# Altium integrated library NSC Amplifier.IntLib: 1615 symbols (part 33 of 44)
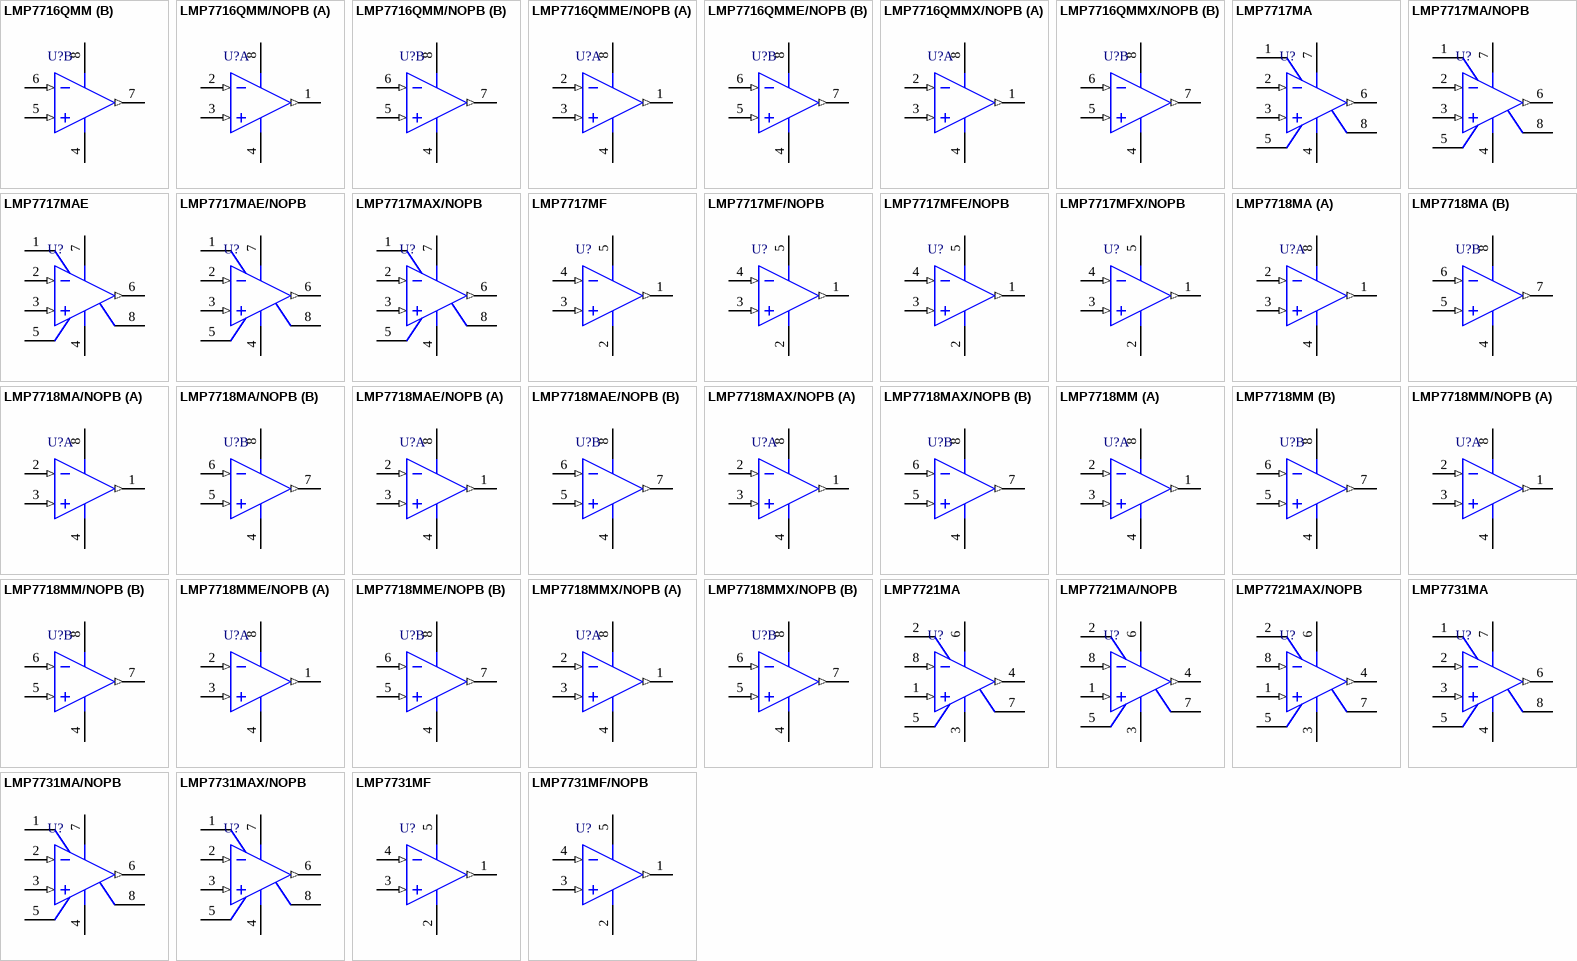
[diagram p114: symbols LMP7716QMM to LMP7731MF/NOPB]

## LMP7731MF/NOPB
designator U?
2.9 nV/sqrt(Hz) Low Noise, Precision , RRIO Amplifier, 5-pin SOT-23, Pb-Free; PartNumber: LMP7731MF/NOPB; Manufacturer: National Semiconductor; PackageTopMarking: AY3A*XTT; PowerWise: Y; CompType: Amplifiers; Published: 1-Mar-2010; DatasheetVersion: May-2009; PackageVersion: revD, Aug-2008; PackageReference: MF05A; Publisher: Altium Limited; PackageDescription: Molded SOT-23, .115 x .063 x .040 in Body, 5 Lead, .0375 in Pitch; Supplier 1: Digi-Key; Supplier Part Number 1: LMP7731MFTR-ND; Supplier 2: Digi-Key; Supplier Part Number 2: LMP7731MFCT-ND; Supplier 3: Digi-Key; Supplier Part Number 3: LMP7731MFDKR-ND; Supplier 4: Farnell; Supplier Part Number 4: 1458597; RoHS: Y; PinCount: 5; ComponentLink1Description: LMP7731 Datasheet; ComponentLink1URL: http://www.national.com/ds/LM/LMP7731.pdf; ComponentLink2Description: LMP7731 Web Page; ComponentLink2URL: http://www.national.com/pf/LM/LMP7731.html; ComponentLink3Description: MF05A Package Page; ComponentLink3URL: http://www.national.com/packaging/folders/mf05a.html
footprint MF05A_N (SOT23, 5-Leads, Body 2.9x1.6mm, Pitch 0.95mm, Lead Span 2.8mm, IPC Medium Density)
footprint MF05A_L (SOT23, 5-Leads, Body 2.9x1.6mm, Pitch 0.95mm, Lead Span 2.8mm, IPC High Density)
footprint MF05A_M (SOT23, 5-Leads, Body 2.9x1.6mm, Pitch 0.95mm, Lead Span 2.8mm, IPC Low Density)
simulation model LMP7731 (SUBCKT)
pins: 1 OUT (out), 2 V- (power), 3 IN+ (in), 4 IN- (in), 5 V+ (power)

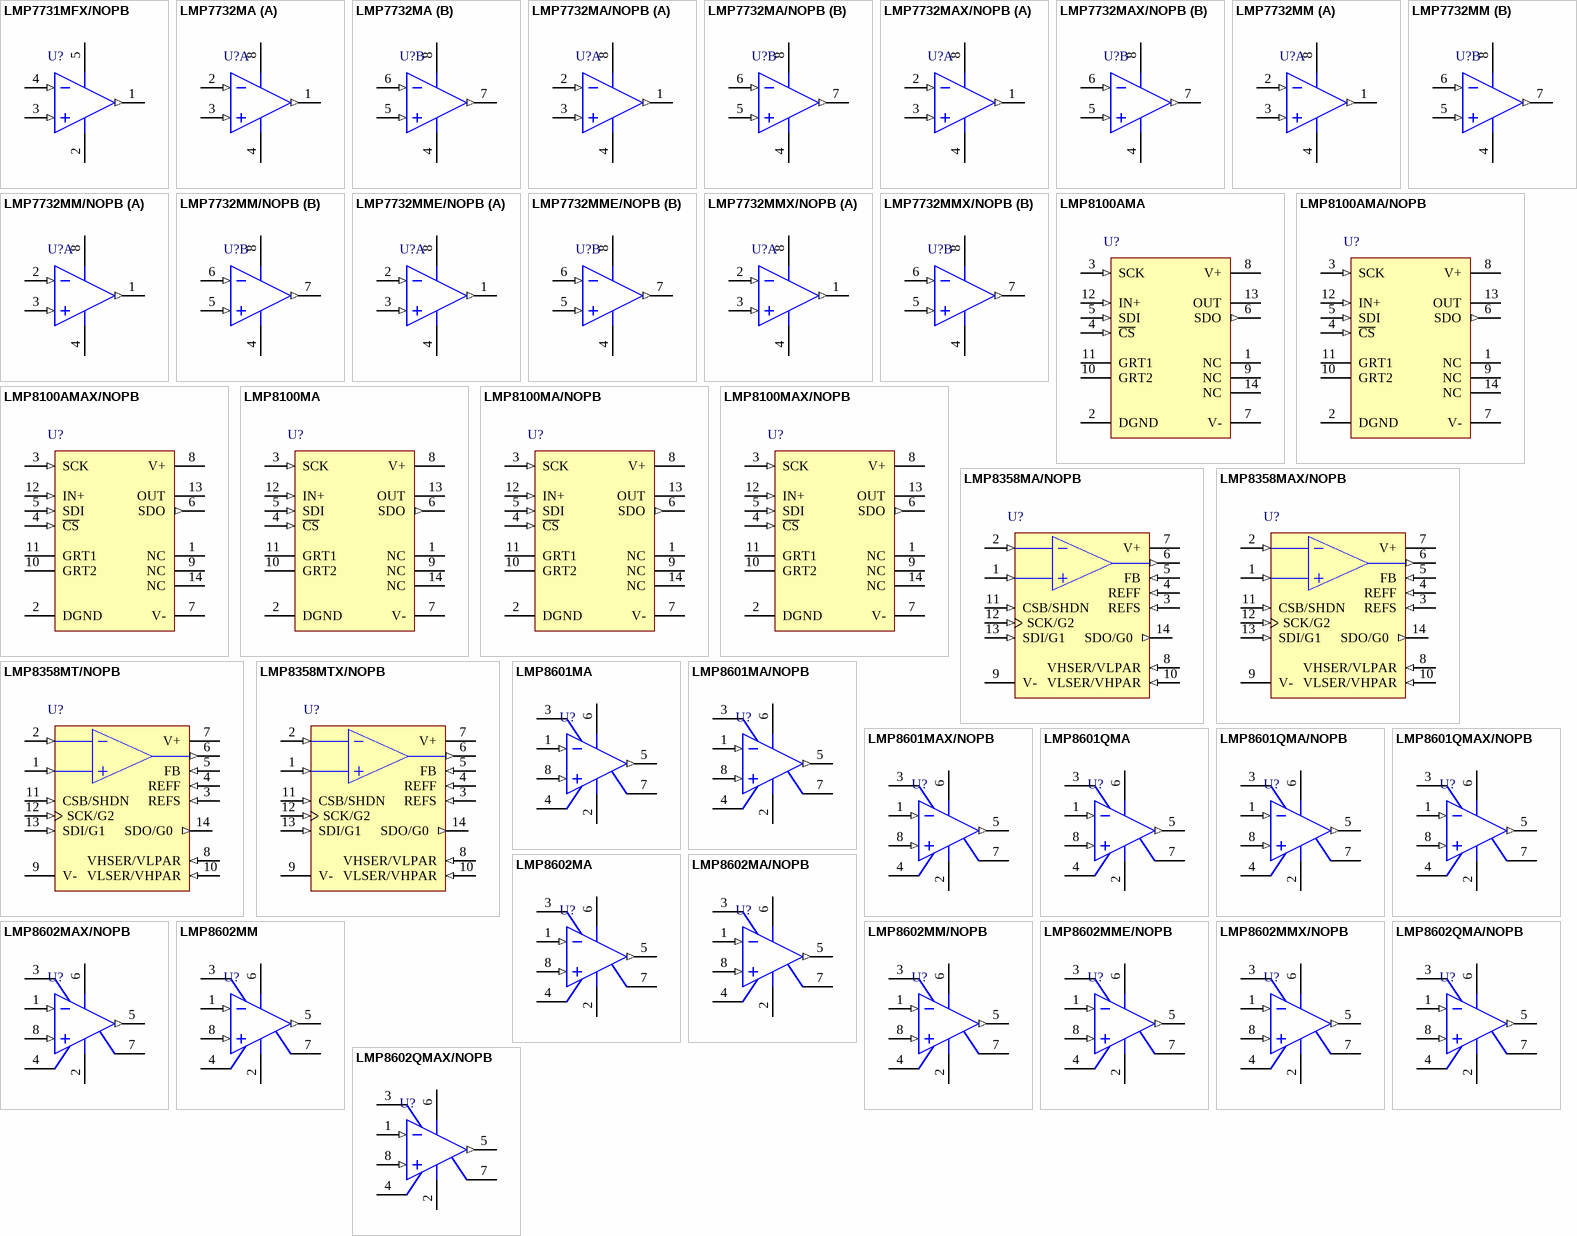
[diagram p63: symbols LMP7731MFX/NOPB to LMP8602QMAX/NOPB]

## LMP7731MFX/NOPB
designator U?
2.9 nV/sqrt(Hz) Low Noise, Precision , RRIO Amplifier, 5-pin SOT-23, Pb-Free; PartNumber: LMP7731MFX/NOPB; Manufacturer: National Semiconductor; PackageTopMarking: AY3A*XTT; PowerWise: Y; CompType: Amplifiers; Published: 1-Mar-2010; DatasheetVersion: May-2009; PackageVersion: revD, Aug-2008; PackageReference: MF05A; Publisher: Altium Limited; PackageDescription: Molded SOT-23, .115 x .063 x .040 in Body, 5 Lead, .0375 in Pitch; Supplier 1: Digi-Key; Supplier Part Number 1: LMP7731MFX-ND; RoHS: Y; PinCount: 5; ComponentLink1Description: LMP7731 Datasheet; ComponentLink1URL: http://www.national.com/ds/LM/LMP7731.pdf; ComponentLink2Description: LMP7731 Web Page; ComponentLink2URL: http://www.national.com/pf/LM/LMP7731.html; ComponentLink3Description: MF05A Package Page; ComponentLink3URL: http://www.national.com/packaging/folders/mf05a.html
footprint MF05A_N (SOT23, 5-Leads, Body 2.9x1.6mm, Pitch 0.95mm, Lead Span 2.8mm, IPC Medium Density)
footprint MF05A_L (SOT23, 5-Leads, Body 2.9x1.6mm, Pitch 0.95mm, Lead Span 2.8mm, IPC High Density)
footprint MF05A_M (SOT23, 5-Leads, Body 2.9x1.6mm, Pitch 0.95mm, Lead Span 2.8mm, IPC Low Density)
simulation model LMP7731 (SUBCKT)
pins: 1 OUT (out), 2 V- (power), 3 IN+ (in), 4 IN- (in), 5 V+ (power)

## LMP7732MA
designator U?
2.9nV/sqrt(Hz) Low Noise Precision, RRIO Amplifier, 8-pin Narrow SOIC; PartNumber: LMP7732MA; Manufacturer: National Semiconductor; PackageTopMarking: NSZXTT*LMP77*32MA; PowerWise: Y; CompType: Amplifiers; Published: 4-Dec-2008; LatestRevisionDate: 13-Jan-2009; LatestRevisionNote: Sim Model Added.; DatasheetVersion: May-2009; PackageVersion: revM, May-2009; PackageReference: M08A; Publisher: Altium Limited; PackageDescription: SOIC Narrow, 4.9 x 3.9 x 1.45mm, 8 Lead, 1.27mm Pitch; Supplier 1: Farnell; Supplier Part Number 1: 1495065; RoHS: Y; PinCount: 8; Code_JEDEC: MS-012-AA; Code_IPC: SOIC127P600-8; ComponentLink1Description: LMP7732 Datasheet; ComponentLink1URL: http://www.national.com/ds/LM/LMP7732.pdf; ComponentLink2Description: LMP7732 Web Page; ComponentLink2URL: http://www.national.com/pf/LM/LMP7732.html; ComponentLink3Description: M08A Package Page; ComponentLink3URL: http://www.national.com/packaging/folders/m08a.html
footprint M08A_N (SOIC, 8-Leads, Body 4.9x3.9mm, Pitch 1.27mm, IPC Medium Density)
footprint M08A_L (SOIC, 8-Leads, Body 4.9x3.9mm, Pitch 1.27mm, IPC High Density)
footprint M08A_M (SOIC, 8-Leads, Body 4.9x3.9mm, Pitch 1.27mm, IPC Low Density)
simulation model LMP7732 (SUBCKT)
pins on every part: 4 V- (power), 8 V+ (power)
part A pins: 1 OUTA (out), 2 INA- (in), 3 INA+ (in)
part B pins: 5 INB+ (in), 6 INB- (in), 7 OUTB (out)

## LMP7732MA/NOPB
designator U?
2.9nV/sqrt(Hz) Low Noise, RRIO Amplifier, 8-pin Narrow SOIC, Pb-Free; PartNumber: LMP7732MA/NOPB; Manufacturer: National Semiconductor; PackageTopMarking: NSZXTT*LMP77*32MA; PowerWise: Y; CompType: Amplifiers; Published: 1-Mar-2010; DatasheetVersion: May-2009; PackageVersion: revM, May-2009; PackageReference: M08A; Publisher: Altium Limited; PackageDescription: SOIC Narrow, 4.9 x 3.9 x 1.45mm, 8 Lead, 1.27mm Pitch; Supplier 1: Digi-Key; Supplier Part Number 1: LMP7732MA-ND; Supplier 2: Farnell; Supplier Part Number 2: 1468061; RoHS: Y; PinCount: 8; Code_JEDEC: MS-012-AA; Code_IPC: SOIC127P600-8; ComponentLink1Description: LMP7732 Datasheet; ComponentLink1URL: http://www.national.com/ds/LM/LMP7732.pdf; ComponentLink2Description: LMP7732 Web Page; ComponentLink2URL: http://www.national.com/pf/LM/LMP7732.html; ComponentLink3Description: M08A Package Page; ComponentLink3URL: http://www.national.com/packaging/folders/m08a.html
footprint M08A_N (SOIC, 8-Leads, Body 4.9x3.9mm, Pitch 1.27mm, IPC Medium Density)
footprint M08A_L (SOIC, 8-Leads, Body 4.9x3.9mm, Pitch 1.27mm, IPC High Density)
footprint M08A_M (SOIC, 8-Leads, Body 4.9x3.9mm, Pitch 1.27mm, IPC Low Density)
simulation model LMP7732 (SUBCKT)
pins on every part: 4 V- (power), 8 V+ (power)
part A pins: 1 OUTA (out), 2 INA- (in), 3 INA+ (in)
part B pins: 5 INB+ (in), 6 INB- (in), 7 OUTB (out)

## LMP7732MAX/NOPB
designator U?
2.9nV/sqrt(Hz) Low Noise, RRIO Amplifier, 8-pin Narrow SOIC, Pb-Free; PartNumber: LMP7732MAX/NOPB; Manufacturer: National Semiconductor; PackageTopMarking: NSZXTT*LMP77*32MA; PowerWise: Y; CompType: Amplifiers; Published: 1-Mar-2010; DatasheetVersion: May-2009; PackageVersion: revM, May-2009; PackageReference: M08A; Publisher: Altium Limited; PackageDescription: SOIC Narrow, 4.9 x 3.9 x 1.45mm, 8 Lead, 1.27mm Pitch; Supplier 1: Digi-Key; Supplier Part Number 1: LMP7732MAX-ND; RoHS: Y; PinCount: 8; Code_JEDEC: MS-012-AA; Code_IPC: SOIC127P600-8; ComponentLink1Description: LMP7732 Datasheet; ComponentLink1URL: http://www.national.com/ds/LM/LMP7732.pdf; ComponentLink2Description: LMP7732 Web Page; ComponentLink2URL: http://www.national.com/pf/LM/LMP7732.html; ComponentLink3Description: M08A Package Page; ComponentLink3URL: http://www.national.com/packaging/folders/m08a.html
footprint M08A_N (SOIC, 8-Leads, Body 4.9x3.9mm, Pitch 1.27mm, IPC Medium Density)
footprint M08A_L (SOIC, 8-Leads, Body 4.9x3.9mm, Pitch 1.27mm, IPC High Density)
footprint M08A_M (SOIC, 8-Leads, Body 4.9x3.9mm, Pitch 1.27mm, IPC Low Density)
simulation model LMP7732 (SUBCKT)
pins on every part: 4 V- (power), 8 V+ (power)
part A pins: 1 OUTA (out), 2 INA- (in), 3 INA+ (in)
part B pins: 5 INB+ (in), 6 INB- (in), 7 OUTB (out)

## LMP7732MM
designator U?
2.9nV/sqrt(Hz) Low Noise Precision, RRIO Amplifier, 8-pin Mini SOIC; PartNumber: LMP7732MM; Manufacturer: National Semiconductor; PackageTopMarking: ZXTT*AZ3A; PowerWise: N; CompType: Amplifiers; Published: 4-Dec-2008; LatestRevisionDate: 13-Jan-2009; LatestRevisionNote: Sim Model Added.; DatasheetVersion: May-2009; PackageVersion: revF, Apr-2008; PackageReference: MUA08A; Publisher: Altium Limited; PackageDescription: MINI SOIC, .118 x .118 x .034in, 8 Lead, .0256in Pitch; Supplier 1: Farnell; Supplier Part Number 1: 1663023; RoHS: Y; PinCount: 8; Code_JEDEC: MO-187-AA; ComponentLink1Description: LMP7732 Datasheet; ComponentLink1URL: http://www.national.com/ds/LM/LMP7732.pdf; ComponentLink2Description: LMP7732 Web Page; ComponentLink2URL: http://www.national.com/pf/LM/LMP7732.html; ComponentLink3Description: MUA08A Package Page; ComponentLink3URL: http://www.national.com/packaging/folders/mua08a.html
footprint MUA08A_N (TSOP, 8-Leads, Body 3x3mm, Pitch 0.65mm, IPC Medium Density)
footprint MUA08A_L (TSOP, 8-Leads, Body 3x3mm, Pitch 0.65mm, IPC High Density)
footprint MUA08A_M (TSOP, 8-Leads, Body 3x3mm, Pitch 0.65mm, IPC Low Density)
simulation model LMP7732 (SUBCKT)
pins on every part: 4 V- (power), 8 V+ (power)
part A pins: 1 OUTA (out), 2 INA- (in), 3 INA+ (in)
part B pins: 5 INB+ (in), 6 INB- (in), 7 OUTB (out)

## LMP7732MM/NOPB
designator U?
2.9nV/sqrt(Hz) Low Noise, RRIO Amplifier, 8-pin Mini SOIC, Pb-Free; PartNumber: LMP7732MM/NOPB; Manufacturer: National Semiconductor; PackageTopMarking: ZXTT*AZ3A; PowerWise: N; CompType: Amplifiers; Published: 1-Mar-2010; DatasheetVersion: May-2009; PackageVersion: revF, Apr-2008; PackageReference: MUA08A; Publisher: Altium Limited; PackageDescription: MINI SOIC, .118 x .118 x .034in, 8 Lead, .0256in Pitch; Supplier 1: Digi-Key; Supplier Part Number 1: LMP7732MM-ND; RoHS: Y; PinCount: 8; Code_JEDEC: MO-187-AA; ComponentLink1Description: LMP7732 Datasheet; ComponentLink1URL: http://www.national.com/ds/LM/LMP7732.pdf; ComponentLink2Description: LMP7732 Web Page; ComponentLink2URL: http://www.national.com/pf/LM/LMP7732.html; ComponentLink3Description: MUA08A Package Page; ComponentLink3URL: http://www.national.com/packaging/folders/mua08a.html
footprint MUA08A_N (TSOP, 8-Leads, Body 3x3mm, Pitch 0.65mm, IPC Medium Density)
footprint MUA08A_L (TSOP, 8-Leads, Body 3x3mm, Pitch 0.65mm, IPC High Density)
footprint MUA08A_M (TSOP, 8-Leads, Body 3x3mm, Pitch 0.65mm, IPC Low Density)
simulation model LMP7732 (SUBCKT)
pins on every part: 4 V- (power), 8 V+ (power)
part A pins: 1 OUTA (out), 2 INA- (in), 3 INA+ (in)
part B pins: 5 INB+ (in), 6 INB- (in), 7 OUTB (out)

## LMP7732MME/NOPB
designator U?
2.9nV/sqrt(Hz) Low Noise, RRIO Amplifier, 8-pin Mini SOIC, Pb-Free; PartNumber: LMP7732MME/NOPB; Manufacturer: National Semiconductor; PackageTopMarking: ZXTT*AZ3A; PowerWise: N; CompType: Amplifiers; Published: 1-Mar-2010; DatasheetVersion: May-2009; PackageVersion: revF, Apr-2008; PackageReference: MUA08A; Publisher: Altium Limited; PackageDescription: MINI SOIC, .118 x .118 x .034in, 8 Lead, .0256in Pitch; Supplier 1: Digi-Key; Supplier Part Number 1: LMP7732MMETR-ND; Supplier 2: Digi-Key; Supplier Part Number 2: LMP7732MMECT-ND; Supplier 3: Digi-Key; Supplier Part Number 3: LMP7732MMEDKR-ND; RoHS: Y; PinCount: 8; Code_JEDEC: MO-187-AA; ComponentLink1Description: LMP7732 Datasheet; ComponentLink1URL: http://www.national.com/ds/LM/LMP7732.pdf; ComponentLink2Description: LMP7732 Web Page; ComponentLink2URL: http://www.national.com/pf/LM/LMP7732.html; ComponentLink3Description: MUA08A Package Page; ComponentLink3URL: http://www.national.com/packaging/folders/mua08a.html
footprint MUA08A_N (TSOP, 8-Leads, Body 3x3mm, Pitch 0.65mm, IPC Medium Density)
footprint MUA08A_L (TSOP, 8-Leads, Body 3x3mm, Pitch 0.65mm, IPC High Density)
footprint MUA08A_M (TSOP, 8-Leads, Body 3x3mm, Pitch 0.65mm, IPC Low Density)
simulation model LMP7732 (SUBCKT)
pins on every part: 4 V- (power), 8 V+ (power)
part A pins: 1 OUTA (out), 2 INA- (in), 3 INA+ (in)
part B pins: 5 INB+ (in), 6 INB- (in), 7 OUTB (out)

## LMP7732MMX/NOPB
designator U?
2.9nV/sqrt(Hz) Low Noise, RRIO Amplifier, 8-pin Mini SOIC, Pb-Free; PartNumber: LMP7732MMX/NOPB; Manufacturer: National Semiconductor; PackageTopMarking: ZXTT*AZ3A; PowerWise: N; CompType: Amplifiers; Published: 1-Mar-2010; DatasheetVersion: May-2009; PackageVersion: revF, Apr-2008; PackageReference: MUA08A; Publisher: Altium Limited; PackageDescription: MINI SOIC, .118 x .118 x .034in, 8 Lead, .0256in Pitch; Supplier 1: Digi-Key; Supplier Part Number 1: LMP7732MMX-ND; RoHS: Y; PinCount: 8; Code_JEDEC: MO-187-AA; ComponentLink1Description: LMP7732 Datasheet; ComponentLink1URL: http://www.national.com/ds/LM/LMP7732.pdf; ComponentLink2Description: LMP7732 Web Page; ComponentLink2URL: http://www.national.com/pf/LM/LMP7732.html; ComponentLink3Description: MUA08A Package Page; ComponentLink3URL: http://www.national.com/packaging/folders/mua08a.html
footprint MUA08A_N (TSOP, 8-Leads, Body 3x3mm, Pitch 0.65mm, IPC Medium Density)
footprint MUA08A_L (TSOP, 8-Leads, Body 3x3mm, Pitch 0.65mm, IPC High Density)
footprint MUA08A_M (TSOP, 8-Leads, Body 3x3mm, Pitch 0.65mm, IPC Low Density)
simulation model LMP7732 (SUBCKT)
pins on every part: 4 V- (power), 8 V+ (power)
part A pins: 1 OUTA (out), 2 INA- (in), 3 INA+ (in)
part B pins: 5 INB+ (in), 6 INB- (in), 7 OUTB (out)

## LMP8100AMA
designator U?
Programmable Gain Amplifier, 14-pin Narrow SOIC; PartNumber: LMP8100AMA; Manufacturer: National Semiconductor; PackageTopMarking: NSUZXYTT*LMP8100*AMA; PowerWise: N; CompType: Amplifiers; Published: 4-Dec-2008; DatasheetVersion: Apr-2008; PackageVersion: revJ, Jan-1996; PackageReference: M14A; Publisher: Altium Limited; PackageDescription: Molded Package S.O., .150in Wide, 14 Lead; Supplier 1: Farnell; Supplier Part Number 1: 1433159; RoHS: Y; PinCount: 14; Code_JEDEC: MS-012AB; Code_IPC: SOIC127P600-14; ComponentLink1Description: LMP8100 Datasheet; ComponentLink1URL: http://www.national.com/ds/LM/LMP8100.pdf; ComponentLink2Description: LMP8100 Web Page; ComponentLink2URL: http://www.national.com/pf/LM/LMP8100.html; ComponentLink3Description: M14A Package Page; ComponentLink3URL: http://www.national.com/packaging/folders/m14a.html
footprint M14A_N (SOIC, 14-Leads, Body 8.6x3.9mm, Pitch 1.27mm, IPC Medium Density)
footprint M14A_L (SOIC, 14-Leads, Body 8.6x3.9mm, Pitch 1.27mm, IPC High Density)
footprint M14A_M (SOIC, 14-Leads, Body 8.6x3.9mm, Pitch 1.27mm, IPC Low Density)
pins: 1 NC, 2 DGND, 3 SCK (in), 4 ~{CS} (in), 5 SDI (in), 6 SDO (out), 7 V- (power), 8 V+ (power), 9 NC, 10 GRT2, 11 GRT1, 12 IN+ (in), 13 OUT, 14 NC

## LMP8100AMA/NOPB
designator U?
Programmable Gain Amplifier, 14-pin Narrow SOIC, Pb-Free; PartNumber: LMP8100AMA/NOPB; Manufacturer: National Semiconductor; PackageTopMarking: NSUZXYTTE#*LMP8100*AMA; PowerWise: N; CompType: Amplifiers; Published: 1-Mar-2010; DatasheetVersion: Apr-2008; PackageVersion: revJ, Jan-1996; PackageReference: M14A; Publisher: Altium Limited; PackageDescription: Molded Package S.O., .150in Wide, 14 Lead; Supplier 1: Digi-Key; Supplier Part Number 1: LMP8100AMA-ND; RoHS: Y; PinCount: 14; Code_JEDEC: MS-012AB; Code_IPC: SOIC127P600-14; ComponentLink1Description: LMP8100 Datasheet; ComponentLink1URL: http://www.national.com/ds/LM/LMP8100.pdf; ComponentLink2Description: LMP8100 Web Page; ComponentLink2URL: http://www.national.com/pf/LM/LMP8100.html; ComponentLink3Description: M14A Package Page; ComponentLink3URL: http://www.national.com/packaging/folders/m14a.html
footprint M14A_N (SOIC, 14-Leads, Body 8.6x3.9mm, Pitch 1.27mm, IPC Medium Density)
footprint M14A_L (SOIC, 14-Leads, Body 8.6x3.9mm, Pitch 1.27mm, IPC High Density)
footprint M14A_M (SOIC, 14-Leads, Body 8.6x3.9mm, Pitch 1.27mm, IPC Low Density)
pins: 1 NC, 2 DGND, 3 SCK (in), 4 ~{CS} (in), 5 SDI (in), 6 SDO (out), 7 V- (power), 8 V+ (power), 9 NC, 10 GRT2, 11 GRT1, 12 IN+ (in), 13 OUT, 14 NC

## LMP8100AMAX/NOPB
designator U?
Programmable Gain Amplifier, 14-pin Narrow SOIC, Pb-Free; PartNumber: LMP8100AMAX/NOPB; Manufacturer: National Semiconductor; PackageTopMarking: NSUZXYTTE#*LMP8100*AMA; PowerWise: N; CompType: Amplifiers; Published: 1-Mar-2010; DatasheetVersion: Apr-2008; PackageVersion: revJ, Jan-1996; PackageReference: M14A; Publisher: Altium Limited; PackageDescription: Molded Package S.O., .150in Wide, 14 Lead; Supplier 1: Digi-Key; Supplier Part Number 1: LMP8100AMAX-ND; RoHS: Y; PinCount: 14; Code_JEDEC: MS-012AB; Code_IPC: SOIC127P600-14; ComponentLink1Description: LMP8100 Datasheet; ComponentLink1URL: http://www.national.com/ds/LM/LMP8100.pdf; ComponentLink2Description: LMP8100 Web Page; ComponentLink2URL: http://www.national.com/pf/LM/LMP8100.html; ComponentLink3Description: M14A Package Page; ComponentLink3URL: http://www.national.com/packaging/folders/m14a.html
footprint M14A_N (SOIC, 14-Leads, Body 8.6x3.9mm, Pitch 1.27mm, IPC Medium Density)
footprint M14A_L (SOIC, 14-Leads, Body 8.6x3.9mm, Pitch 1.27mm, IPC High Density)
footprint M14A_M (SOIC, 14-Leads, Body 8.6x3.9mm, Pitch 1.27mm, IPC Low Density)
pins: 1 NC, 2 DGND, 3 SCK (in), 4 ~{CS} (in), 5 SDI (in), 6 SDO (out), 7 V- (power), 8 V+ (power), 9 NC, 10 GRT2, 11 GRT1, 12 IN+ (in), 13 OUT, 14 NC

## LMP8100MA
designator U?
Programmable Gain Amplifier, 14-pin Narrow SOIC; PartNumber: LMP8100MA; Manufacturer: National Semiconductor; PackageTopMarking: NSUZXYTT*LMP8100*MA; PowerWise: N; CompType: Amplifiers; Published: 4-Dec-2008; DatasheetVersion: Apr-2008; PackageVersion: revJ, Jan-1996; PackageReference: M14A; Publisher: Altium Limited; PackageDescription: Molded Package S.O., .150in Wide, 14 Lead; Supplier 1: Farnell; Supplier Part Number 1: 1433175; RoHS: Y; PinCount: 14; Code_JEDEC: MS-012AB; Code_IPC: SOIC127P600-14; ComponentLink1Description: LMP8100 Datasheet; ComponentLink1URL: http://www.national.com/ds/LM/LMP8100.pdf; ComponentLink2Description: LMP8100 Web Page; ComponentLink2URL: http://www.national.com/pf/LM/LMP8100.html; ComponentLink3Description: M14A Package Page; ComponentLink3URL: http://www.national.com/packaging/folders/m14a.html
footprint M14A_N (SOIC, 14-Leads, Body 8.6x3.9mm, Pitch 1.27mm, IPC Medium Density)
footprint M14A_L (SOIC, 14-Leads, Body 8.6x3.9mm, Pitch 1.27mm, IPC High Density)
footprint M14A_M (SOIC, 14-Leads, Body 8.6x3.9mm, Pitch 1.27mm, IPC Low Density)
pins: 1 NC, 2 DGND, 3 SCK (in), 4 ~{CS} (in), 5 SDI (in), 6 SDO (out), 7 V- (power), 8 V+ (power), 9 NC, 10 GRT2, 11 GRT1, 12 IN+ (in), 13 OUT, 14 NC

## LMP8100MA/NOPB
designator U?
Programmable Gain Amplifier, 14-pin Narrow SOIC, Pb-Free; PartNumber: LMP8100MA/NOPB; Manufacturer: National Semiconductor; PackageTopMarking: NSUZXYTTE#*LMP8100*MA; PowerWise: N; CompType: Amplifiers; Published: 1-Mar-2010; DatasheetVersion: Apr-2008; PackageVersion: revJ, Jan-1996; PackageReference: M14A; Publisher: Altium Limited; PackageDescription: Molded Package S.O., .150in Wide, 14 Lead; Supplier 1: Digi-Key; Supplier Part Number 1: LMP8100MA-ND; Supplier 2: Farnell; Supplier Part Number 2: 1440350; RoHS: Y; PinCount: 14; Code_JEDEC: MS-012AB; Code_IPC: SOIC127P600-14; ComponentLink1Description: LMP8100 Datasheet; ComponentLink1URL: http://www.national.com/ds/LM/LMP8100.pdf; ComponentLink2Description: LMP8100 Web Page; ComponentLink2URL: http://www.national.com/pf/LM/LMP8100.html; ComponentLink3Description: M14A Package Page; ComponentLink3URL: http://www.national.com/packaging/folders/m14a.html
footprint M14A_N (SOIC, 14-Leads, Body 8.6x3.9mm, Pitch 1.27mm, IPC Medium Density)
footprint M14A_L (SOIC, 14-Leads, Body 8.6x3.9mm, Pitch 1.27mm, IPC High Density)
footprint M14A_M (SOIC, 14-Leads, Body 8.6x3.9mm, Pitch 1.27mm, IPC Low Density)
pins: 1 NC, 2 DGND, 3 SCK (in), 4 ~{CS} (in), 5 SDI (in), 6 SDO (out), 7 V- (power), 8 V+ (power), 9 NC, 10 GRT2, 11 GRT1, 12 IN+ (in), 13 OUT, 14 NC

## LMP8100MAX/NOPB
designator U?
Programmable Gain Amplifier, 14-pin Narrow SOIC, Pb-Free; PartNumber: LMP8100MAX/NOPB; Manufacturer: National Semiconductor; PackageTopMarking: NSUZXYTTE#*LMP8100*MA; PowerWise: N; CompType: Amplifiers; Published: 1-Mar-2010; DatasheetVersion: Apr-2008; PackageVersion: revJ, Jan-1996; PackageReference: M14A; Publisher: Altium Limited; PackageDescription: Molded Package S.O., .150in Wide, 14 Lead; Supplier 1: Digi-Key; Supplier Part Number 1: LMP8100MAX-ND; RoHS: Y; PinCount: 14; Code_JEDEC: MS-012AB; Code_IPC: SOIC127P600-14; ComponentLink1Description: LMP8100 Datasheet; ComponentLink1URL: http://www.national.com/ds/LM/LMP8100.pdf; ComponentLink2Description: LMP8100 Web Page; ComponentLink2URL: http://www.national.com/pf/LM/LMP8100.html; ComponentLink3Description: M14A Package Page; ComponentLink3URL: http://www.national.com/packaging/folders/m14a.html
footprint M14A_N (SOIC, 14-Leads, Body 8.6x3.9mm, Pitch 1.27mm, IPC Medium Density)
footprint M14A_L (SOIC, 14-Leads, Body 8.6x3.9mm, Pitch 1.27mm, IPC High Density)
footprint M14A_M (SOIC, 14-Leads, Body 8.6x3.9mm, Pitch 1.27mm, IPC Low Density)
pins: 1 NC, 2 DGND, 3 SCK (in), 4 ~{CS} (in), 5 SDI (in), 6 SDO (out), 7 V- (power), 8 V+ (power), 9 NC, 10 GRT2, 11 GRT1, 12 IN+ (in), 13 OUT, 14 NC

## LMP8358MA/NOPB
designator U?
Zero-Drift, Programmable Instrumentation Amplifier with Diagnostics, 14-pin SOIC NARROW; PartNumber: LMP8358MA/NOPB; Manufacturer: National Semiconductor; PackageTopMarking: NSUZXYTTE#*LMP8358*MA; PowerWise: N; CompType: Amplifiers; Published: 16-Nov-2010; DatasheetVersion: May-2010; PackageVersion: revJ, Jan-1996; PackageReference: M14A; Publisher: Altium Limited; PackageDescription: Molded Package S.O., .150in Wide, 14 Lead; Supplier 1: Digi-Key; Supplier Part Number 1: LMP8358MA-ND; Supplier 2: Farnell; Supplier Part Number 2: 1822981; RoHS: Y; PinCount: 14; Code_JEDEC: MS-012AB; Code_IPC: SOIC127P600-14; ComponentLink1Description: LMP8358 Datasheet; ComponentLink1URL: http://www.national.com/ds/LM/LMP8358.pdf; ComponentLink2Description: LMP8358 Web Page; ComponentLink2URL: http://www.national.com/pf/LM/LMP8358.html; ComponentLink3Description: M14A Package Page; ComponentLink3URL: http://www.national.com/packaging/folders/m14a.html
footprint M14A_N (SOIC, 14-Leads, Body 8.6x3.9mm, Pitch 1.27mm, IPC Medium Density)
footprint M14A_L (SOIC, 14-Leads, Body 8.6x3.9mm, Pitch 1.27mm, IPC High Density)
footprint M14A_M (SOIC, 14-Leads, Body 8.6x3.9mm, Pitch 1.27mm, IPC Low Density)
pins: 1 +IN (in), 2 -IN (in), 3 REFS (in), 4 REFF (in), 5 FB (in), 6 OUT (out), 7 V+ (power), 8 VHSER/VLPAR (in), 9 V- (power), 10 VLSER/VHPAR (in), 11 CSB/SHDN (in), 12 SCK/G2 (in), 13 SDI/G1 (in), 14 SDO/G0 (out)

## LMP8358MAX/NOPB
designator U?
Zero-Drift, Programmable Instrumentation Amplifier with Diagnostics, 14-pin SOIC NARROW; PartNumber: LMP8358MAX/NOPB; Manufacturer: National Semiconductor; PackageTopMarking: NSUZXYTTE#*LMP8358*MA; PowerWise: N; CompType: Amplifiers; Published: 16-Nov-2010; DatasheetVersion: May-2010; PackageVersion: revJ, Jan-1996; PackageReference: M14A; Publisher: Altium Limited; PackageDescription: Molded Package S.O., .150in Wide, 14 Lead; Supplier 1: Digi-Key; Supplier Part Number 1: LMP8358MAX-ND; RoHS: Y; PinCount: 14; Code_JEDEC: MS-012AB; Code_IPC: SOIC127P600-14; ComponentLink1Description: LMP8358 Datasheet; ComponentLink1URL: http://www.national.com/ds/LM/LMP8358.pdf; ComponentLink2Description: LMP8358 Web Page; ComponentLink2URL: http://www.national.com/pf/LM/LMP8358.html; ComponentLink3Description: M14A Package Page; ComponentLink3URL: http://www.national.com/packaging/folders/m14a.html
footprint M14A_N (SOIC, 14-Leads, Body 8.6x3.9mm, Pitch 1.27mm, IPC Medium Density)
footprint M14A_L (SOIC, 14-Leads, Body 8.6x3.9mm, Pitch 1.27mm, IPC High Density)
footprint M14A_M (SOIC, 14-Leads, Body 8.6x3.9mm, Pitch 1.27mm, IPC Low Density)
pins: 1 +IN (in), 2 -IN (in), 3 REFS (in), 4 REFF (in), 5 FB (in), 6 OUT (out), 7 V+ (power), 8 VHSER/VLPAR (in), 9 V- (power), 10 VLSER/VHPAR (in), 11 CSB/SHDN (in), 12 SCK/G2 (in), 13 SDI/G1 (in), 14 SDO/G0 (out)

## LMP8358MT/NOPB
designator U?
Zero-Drift, Programmable Instrumentation Amplifier with Diagnostics, 14-pin TSSOP; PartNumber: LMP8358MT/NOPB; Manufacturer: National Semiconductor; PackageTopMarking: NSUZXYTT*LMP835*8MT; PowerWise: N; CompType: Amplifiers; Published: 16-Nov-2010; DatasheetVersion: May-2010; PackageVersion: revD, Jun-2003; PackageReference: MTC14; Publisher: Altium Limited; PackageDescription: Molded TSSOP, JEDEC, 5 x 4.4 x 0.9mm Body, 14 Lead, 0.65mm Pitch; Supplier 1: Digi-Key; Supplier Part Number 1: LMP8538MT-ND; Supplier 2: Farnell; Supplier Part Number 2: 1835699; RoHS: Y; PinCount: 14; Code_JEDEC: MO-153-AB-1; ComponentLink1Description: LMP8358 Datasheet; ComponentLink1URL: http://www.national.com/ds/LM/LMP8358.pdf; ComponentLink2Description: LMP8358 Web Page; ComponentLink2URL: http://www.national.com/pf/LM/LMP8358.html; ComponentLink3Description: MTC14 Package Page; ComponentLink3URL: http://www.national.com/packaging/folders/mtc14.html
footprint MTC14_N (TSOP, 14-Leads, Body 5x4.4mm, Pitch 0.65mm, IPC Medium Density)
footprint MTC14_L (TSOP, 14-Leads, Body 5x4.4mm, Pitch 0.65mm, IPC High Density)
footprint MTC14_M (TSOP, 14-Leads, Body 5x4.4mm, Pitch 0.65mm, IPC Low Density)
pins: 1 +IN (in), 2 -IN (in), 3 REFS (in), 4 REFF (in), 5 FB (in), 6 OUT (out), 7 V+ (power), 8 VHSER/VLPAR (in), 9 V- (power), 10 VLSER/VHPAR (in), 11 CSB/SHDN (in), 12 SCK/G2 (in), 13 SDI/G1 (in), 14 SDO/G0 (out)

## LMP8358MTX/NOPB
designator U?
Zero-Drift, Programmable Instrumentation Amplifier with Diagnostics, 14-pin TSSOP; PartNumber: LMP8358MTX/NOPB; Manufacturer: National Semiconductor; PackageTopMarking: NSUZXYTT*LMP835*8MT; PowerWise: N; CompType: Amplifiers; Published: 16-Nov-2010; DatasheetVersion: May-2010; PackageVersion: revD, Jun-2003; PackageReference: MTC14; Publisher: Altium Limited; PackageDescription: Molded TSSOP, JEDEC, 5 x 4.4 x 0.9mm Body, 14 Lead, 0.65mm Pitch; Supplier 1: Digi-Key; Supplier Part Number 1: LMP8358MTX-ND; RoHS: Y; PinCount: 14; Code_JEDEC: MO-153-AB-1; ComponentLink1Description: LMP8358 Datasheet; ComponentLink1URL: http://www.national.com/ds/LM/LMP8358.pdf; ComponentLink2Description: LMP8358 Web Page; ComponentLink2URL: http://www.national.com/pf/LM/LMP8358.html; ComponentLink3Description: MTC14 Package Page; ComponentLink3URL: http://www.national.com/packaging/folders/mtc14.html
footprint MTC14_N (TSOP, 14-Leads, Body 5x4.4mm, Pitch 0.65mm, IPC Medium Density)
footprint MTC14_L (TSOP, 14-Leads, Body 5x4.4mm, Pitch 0.65mm, IPC High Density)
footprint MTC14_M (TSOP, 14-Leads, Body 5x4.4mm, Pitch 0.65mm, IPC Low Density)
pins: 1 +IN (in), 2 -IN (in), 3 REFS (in), 4 REFF (in), 5 FB (in), 6 OUT (out), 7 V+ (power), 8 VHSER/VLPAR (in), 9 V- (power), 10 VLSER/VHPAR (in), 11 CSB/SHDN (in), 12 SCK/G2 (in), 13 SDI/G1 (in), 14 SDO/G0 (out)

## LMP8601MA
designator U?
60V Commom Mode, Bidirectional Precision Current Sensing Amplifier, 8-pin Narrow SOIC; PartNumber: LMP8601; Manufacturer: National Semiconductor; PackageTopMarking: NSZXTT*LMP86*01MA; PowerWise: N; CompType: Amplifiers; Published: 4-Dec-2008; DatasheetVersion: Jul-2009; PackageVersion: revM, May-2009; PackageReference: M08A; Publisher: Altium Limited; PackageDescription: SOIC Narrow, 4.9 x 3.9 x 1.45mm, 8 Lead, 1.27mm Pitch; RoHS: Y; PinCount: 8; Code_JEDEC: MS-012-AA; Code_IPC: SOIC127P600-8; ComponentLink1Description: LMP8601 Datasheet; ComponentLink1URL: http://www.national.com/ds/LM/LMP8601.pdf; ComponentLink2Description: LMP8601 Web Page; ComponentLink2URL: http://www.national.com/pf/LM/LMP8601.html; ComponentLink3Description: M08A Package Page; ComponentLink3URL: http://www.national.com/packaging/folders/m08a.html
footprint M08A_N (SOIC, 8-Leads, Body 4.9x3.9mm, Pitch 1.27mm, IPC Medium Density)
footprint M08A_L (SOIC, 8-Leads, Body 4.9x3.9mm, Pitch 1.27mm, IPC High Density)
footprint M08A_M (SOIC, 8-Leads, Body 4.9x3.9mm, Pitch 1.27mm, IPC Low Density)
pins: 1 IN- (in), 2 GND (power), 3 A1, 4 A2, 5 OUT (out), 6 VS (power), 7 OFS, 8 IN+ (in)

## LMP8601MA/NOPB
designator U?
60V Common Mode, Bidirectional Precision Current Sensing Amplifier, 8-pin Narrow SOIC, Pb-Free; PartNumber: LMP8601MA/NOPB; Manufacturer: National Semiconductor; PackageTopMarking: NSZXTT*LMP86*01MA; PowerWise: N; CompType: Amplifiers; Published: 1-Mar-2010; DatasheetVersion: Jul-2009; PackageVersion: revM, May-2009; PackageReference: M08A; Publisher: Altium Limited; PackageDescription: SOIC Narrow, 4.9 x 3.9 x 1.45mm, 8 Lead, 1.27mm Pitch; Supplier 1: Digi-Key; Supplier Part Number 1: LMP8601MA-ND; Supplier 2: Farnell; Supplier Part Number 2: 1684983; RoHS: Y; PinCount: 8; Code_JEDEC: MS-012-AA; Code_IPC: SOIC127P600-8; ComponentLink1Description: LMP8601 Datasheet; ComponentLink1URL: http://www.national.com/ds/LM/LMP8601.pdf; ComponentLink2Description: LMP8601 Web Page; ComponentLink2URL: http://www.national.com/pf/LM/LMP8601.html; ComponentLink3Description: M08A Package Page; ComponentLink3URL: http://www.national.com/packaging/folders/m08a.html
footprint M08A_N (SOIC, 8-Leads, Body 4.9x3.9mm, Pitch 1.27mm, IPC Medium Density)
footprint M08A_L (SOIC, 8-Leads, Body 4.9x3.9mm, Pitch 1.27mm, IPC High Density)
footprint M08A_M (SOIC, 8-Leads, Body 4.9x3.9mm, Pitch 1.27mm, IPC Low Density)
simulation model LMP8601 (SUBCKT)
pins: 1 IN- (in), 2 GND (power), 3 A1, 4 A2, 5 OUT (out), 6 VS (power), 7 OFS, 8 IN+ (in)

## LMP8601MAX/NOPB
designator U?
60V Common Mode, Bidirectional Precision Current Sensing Amplifier, 8-pin Narrow SOIC, Pb-Free; PartNumber: LMP8601MAX/NOPB; Manufacturer: National Semiconductor; PackageTopMarking: NSZXTT*LMP86*01MA; PowerWise: N; CompType: Amplifiers; Published: 1-Mar-2010; DatasheetVersion: Jul-2009; PackageVersion: revM, May-2009; PackageReference: M08A; Publisher: Altium Limited; PackageDescription: SOIC Narrow, 4.9 x 3.9 x 1.45mm, 8 Lead, 1.27mm Pitch; Supplier 1: Digi-Key; Supplier Part Number 1: LMP8601MAX-ND; RoHS: Y; PinCount: 8; Code_JEDEC: MS-012-AA; Code_IPC: SOIC127P600-8; ComponentLink1Description: LMP8601 Datasheet; ComponentLink1URL: http://www.national.com/ds/LM/LMP8601.pdf; ComponentLink2Description: LMP8601 Web Page; ComponentLink2URL: http://www.national.com/pf/LM/LMP8601.html; ComponentLink3Description: M08A Package Page; ComponentLink3URL: http://www.national.com/packaging/folders/m08a.html
footprint M08A_N (SOIC, 8-Leads, Body 4.9x3.9mm, Pitch 1.27mm, IPC Medium Density)
footprint M08A_L (SOIC, 8-Leads, Body 4.9x3.9mm, Pitch 1.27mm, IPC High Density)
footprint M08A_M (SOIC, 8-Leads, Body 4.9x3.9mm, Pitch 1.27mm, IPC Low Density)
simulation model LMP8601 (SUBCKT)
pins: 1 IN- (in), 2 GND (power), 3 A1, 4 A2, 5 OUT (out), 6 VS (power), 7 OFS, 8 IN+ (in)

## LMP8601QMA
designator U?
60V Common Mode, Bidirectional Precision Current Sensing Amplifier, 8-pin Narrow SOIC; PartNumber: LMP8601Q; Manufacturer: National Semiconductor; PackageTopMarking: NSZXTT*LMP86*01QMA; PowerWise: N; CompType: Amplifiers; Published: 4-Dec-2008; DatasheetVersion: Oct-2008; PackageVersion: revM, May-2009; PackageReference: M08A; Publisher: Altium Limited; PackageDescription: SOIC Narrow, 4.9 x 3.9 x 1.45mm, 8 Lead, 1.27mm Pitch; RoHS: Y; PinCount: 8; Code_JEDEC: MS-012-AA; Code_IPC: SOIC127P600-8; ComponentLink1Description: LMP8601Q Datasheet; ComponentLink1URL: http://www.national.com/ds/LM/LMP8601.pdf; ComponentLink2Description: LMP8601Q Web Page; ComponentLink2URL: http://www.national.com/pf/LM/LMP8601Q.html; ComponentLink3Description: M08A Package Page; ComponentLink3URL: http://www.national.com/packaging/folders/m08a.html
footprint M08A_N (SOIC, 8-Leads, Body 4.9x3.9mm, Pitch 1.27mm, IPC Medium Density)
footprint M08A_L (SOIC, 8-Leads, Body 4.9x3.9mm, Pitch 1.27mm, IPC High Density)
footprint M08A_M (SOIC, 8-Leads, Body 4.9x3.9mm, Pitch 1.27mm, IPC Low Density)
pins: 1 IN- (in), 2 GND (power), 3 A1, 4 A2, 5 OUT (out), 6 VS (power), 7 OFS, 8 IN+ (in)

## LMP8601QMA/NOPB
designator U?
60V Common Mode, Bidirectional Precision Current Sensing Amplifier, 8-pin Narrow SOIC, Pb-Free; PartNumber: LMP8601QMA/NOPB; Manufacturer: National Semiconductor; PackageTopMarking: NSZXTT*LMP86*01QMA; PowerWise: N; CompType: Amplifiers; Published: 1-Mar-2010; DatasheetVersion: Jul-2009; PackageVersion: revM, May-2009; PackageReference: M08A; Publisher: Altium Limited; PackageDescription: SOIC Narrow, 4.9 x 3.9 x 1.45mm, 8 Lead, 1.27mm Pitch; Supplier 1: Digi-Key; Supplier Part Number 1: LMP8601QMA-ND; RoHS: Y; PinCount: 8; Code_JEDEC: MS-012-AA; Code_IPC: SOIC127P600-8; ComponentLink1Description: LMP8601 Datasheet; ComponentLink1URL: http://www.national.com/ds/LM/LMP8601.pdf; ComponentLink2Description: LMP8601 Web Page; ComponentLink2URL: http://www.national.com/pf/LM/LMP8601.html; ComponentLink3Description: M08A Package Page; ComponentLink3URL: http://www.national.com/packaging/folders/m08a.html
footprint M08A_N (SOIC, 8-Leads, Body 4.9x3.9mm, Pitch 1.27mm, IPC Medium Density)
footprint M08A_L (SOIC, 8-Leads, Body 4.9x3.9mm, Pitch 1.27mm, IPC High Density)
footprint M08A_M (SOIC, 8-Leads, Body 4.9x3.9mm, Pitch 1.27mm, IPC Low Density)
simulation model LMP8601 (SUBCKT)
pins: 1 IN- (in), 2 GND (power), 3 A1, 4 A2, 5 OUT (out), 6 VS (power), 7 OFS, 8 IN+ (in)

## LMP8601QMAX/NOPB
designator U?
60V Common Mode, Bidirectional Precision Current Sensing Amplifier, 8-pin Narrow SOIC, Pb-Free; PartNumber: LMP8601QMAX/NOPB; Manufacturer: National Semiconductor; PackageTopMarking: NSZXTT*LMP86*01QMA; PowerWise: N; CompType: Amplifiers; Published: 1-Mar-2010; DatasheetVersion: Jul-2009; PackageVersion: revM, May-2009; PackageReference: M08A; Publisher: Altium Limited; PackageDescription: SOIC Narrow, 4.9 x 3.9 x 1.45mm, 8 Lead, 1.27mm Pitch; Supplier 1: Digi-Key; Supplier Part Number 1: LMP8601QMAX-ND; RoHS: Y; PinCount: 8; Code_JEDEC: MS-012-AA; Code_IPC: SOIC127P600-8; ComponentLink1Description: LMP8601 Datasheet; ComponentLink1URL: http://www.national.com/ds/LM/LMP8601.pdf; ComponentLink2Description: LMP8601 Web Page; ComponentLink2URL: http://www.national.com/pf/LM/LMP8601.html; ComponentLink3Description: M08A Package Page; ComponentLink3URL: http://www.national.com/packaging/folders/m08a.html
footprint M08A_N (SOIC, 8-Leads, Body 4.9x3.9mm, Pitch 1.27mm, IPC Medium Density)
footprint M08A_L (SOIC, 8-Leads, Body 4.9x3.9mm, Pitch 1.27mm, IPC High Density)
footprint M08A_M (SOIC, 8-Leads, Body 4.9x3.9mm, Pitch 1.27mm, IPC Low Density)
simulation model LMP8601 (SUBCKT)
pins: 1 IN- (in), 2 GND (power), 3 A1, 4 A2, 5 OUT (out), 6 VS (power), 7 OFS, 8 IN+ (in)

## LMP8602MA
designator U?
60V Common Mode, 50 x Gain, Bidirectional Precision Current Sensing Amplifier, 8-pin Narrow SOIC; PartNumber: LMP8602MA; Manufacturer: National Semiconductor; PackageTopMarking: NSZXTT*LMP86*02MA; PowerWise: N; CompType: Amplifiers; Published: 9-Oct-2009; DatasheetVersion: Mar-2010; PackageVersion: revM, May-2009; PackageReference: M08A; Publisher: Altium Limited; PackageDescription: SOIC Narrow, 4.9 x 3.9 x 1.45mm, 8 Lead, 1.27mm Pitch; RoHS: Y; PinCount: 8; Code_JEDEC: MS-012-AA; Code_IPC: SOIC127P600-8; ComponentLink1Description: LMP8602 Datasheet; ComponentLink1URL: http://www.national.com/ds/LM/LMP8602.pdf; ComponentLink2Description: LMP8602 Web Page; ComponentLink2URL: http://www.national.com/pf/LM/LMP8602.html; ComponentLink3Description: M08A Package Page; ComponentLink3URL: http://www.national.com/packaging/folders/m08a.html
footprint M08A_N (SOIC, 8-Leads, Body 4.9x3.9mm, Pitch 1.27mm, IPC Medium Density)
footprint M08A_L (SOIC, 8-Leads, Body 4.9x3.9mm, Pitch 1.27mm, IPC High Density)
footprint M08A_M (SOIC, 8-Leads, Body 4.9x3.9mm, Pitch 1.27mm, IPC Low Density)
pins: 1 IN- (in), 2 GND (power), 3 A1, 4 A2, 5 OUT (out), 6 VS (power), 7 OFS, 8 IN+ (in)

## LMP8602MA/NOPB
designator U?
60V Common Mode, 50 x Gain, Bidirectional Precision Current Sensing Amplifier, 8-pin Narrow SOIC, Pb-Free; PartNumber: LMP8602MA/NOPB; Manufacturer: National Semiconductor; PackageTopMarking: NSZXTT*LMP86*02MA; PowerWise: N; CompType: Amplifiers; Published: 1-Mar-2010; DatasheetVersion: Mar-2010; PackageVersion: revM, May-2009; PackageReference: M08A; Publisher: Altium Limited; PackageDescription: SOIC Narrow, 4.9 x 3.9 x 1.45mm, 8 Lead, 1.27mm Pitch; Supplier 1: Digi-Key; Supplier Part Number 1: LMP8602MA-ND; Supplier 2: Farnell; Supplier Part Number 2: 1736508; RoHS: Y; PinCount: 8; Code_JEDEC: MS-012-AA; Code_IPC: SOIC127P600-8; ComponentLink1Description: LMP8602 Datasheet; ComponentLink1URL: http://www.national.com/ds/LM/LMP8602.pdf; ComponentLink2Description: LMP8602 Web Page; ComponentLink2URL: http://www.national.com/pf/LM/LMP8602.html; ComponentLink3Description: M08A Package Page; ComponentLink3URL: http://www.national.com/packaging/folders/m08a.html
footprint M08A_N (SOIC, 8-Leads, Body 4.9x3.9mm, Pitch 1.27mm, IPC Medium Density)
footprint M08A_L (SOIC, 8-Leads, Body 4.9x3.9mm, Pitch 1.27mm, IPC High Density)
footprint M08A_M (SOIC, 8-Leads, Body 4.9x3.9mm, Pitch 1.27mm, IPC Low Density)
simulation model LMP8602 (SUBCKT)
pins: 1 IN- (in), 2 GND (power), 3 A1, 4 A2, 5 OUT (out), 6 VS (power), 7 OFS, 8 IN+ (in)

## LMP8602MAX/NOPB
designator U?
60V Common Mode, 50 x Gain, Bidirectional Precision Current Sensing Amplifier, 8-pin Narrow SOIC, Pb-Free; PartNumber: LMP8602MAX/NOPB; Manufacturer: National Semiconductor; PackageTopMarking: NSZXTT*LMP86*02MA; PowerWise: N; CompType: Amplifiers; Published: 1-Mar-2010; DatasheetVersion: Mar-2010; PackageVersion: revM, May-2009; PackageReference: M08A; Publisher: Altium Limited; PackageDescription: SOIC Narrow, 4.9 x 3.9 x 1.45mm, 8 Lead, 1.27mm Pitch; Supplier 1: Digi-Key; Supplier Part Number 1: LMP8602MAX-ND; RoHS: Y; PinCount: 8; Code_JEDEC: MS-012-AA; Code_IPC: SOIC127P600-8; ComponentLink1Description: LMP8602 Datasheet; ComponentLink1URL: http://www.national.com/ds/LM/LMP8602.pdf; ComponentLink2Description: LMP8602 Web Page; ComponentLink2URL: http://www.national.com/pf/LM/LMP8602.html; ComponentLink3Description: M08A Package Page; ComponentLink3URL: http://www.national.com/packaging/folders/m08a.html
footprint M08A_N (SOIC, 8-Leads, Body 4.9x3.9mm, Pitch 1.27mm, IPC Medium Density)
footprint M08A_L (SOIC, 8-Leads, Body 4.9x3.9mm, Pitch 1.27mm, IPC High Density)
footprint M08A_M (SOIC, 8-Leads, Body 4.9x3.9mm, Pitch 1.27mm, IPC Low Density)
simulation model LMP8602 (SUBCKT)
pins: 1 IN- (in), 2 GND (power), 3 A1, 4 A2, 5 OUT (out), 6 VS (power), 7 OFS, 8 IN+ (in)

## LMP8602MM
designator U?
60V Common Mode, 50 x Gain, Bidirectional Precision Current Sensing Amplifier, 8-pin Mini SOIC; PartNumber: LMP8602MM; Manufacturer: National Semiconductor; PackageTopMarking: ZXTT*AN3A; PowerWise: N; CompType: Amplifiers; Published: 9-Oct-2009; DatasheetVersion: Mar-2010; PackageVersion: revF, Apr-2008; PackageReference: MUA08A; Publisher: Altium Limited; PackageDescription: MINI SOIC, .118 x .118 x .034in, 8 Lead, .0256in Pitch; RoHS: Y; PinCount: 8; Code_JEDEC: MO-187-AA; ComponentLink1Description: LMP8602 Datasheet; ComponentLink1URL: http://www.national.com/ds/LM/LMP8602.pdf; ComponentLink2Description: LMP8602 Web Page; ComponentLink2URL: http://www.national.com/pf/LM/LMP8602.html; ComponentLink3Description: MUA08A Package Page; ComponentLink3URL: http://www.national.com/packaging/folders/mua08a.html
footprint MUA08A_N (TSOP, 8-Leads, Body 3x3mm, Pitch 0.65mm, IPC Medium Density)
footprint MUA08A_L (TSOP, 8-Leads, Body 3x3mm, Pitch 0.65mm, IPC High Density)
footprint MUA08A_M (TSOP, 8-Leads, Body 3x3mm, Pitch 0.65mm, IPC Low Density)
pins: 1 IN- (in), 2 GND (power), 3 A1, 4 A2, 5 OUT (out), 6 VS (power), 7 OFS, 8 IN+ (in)

## LMP8602MM/NOPB
designator U?
60V Common Mode, 50 x Gain, Bidirectional Precision Current Sensing Amplifier, 8-pin Mini SOIC, Pb-Free; PartNumber: LMP8602MM/NOPB; Manufacturer: National Semiconductor; PackageTopMarking: ZXTT*AN3A; PowerWise: N; CompType: Amplifiers; Published: 1-Mar-2010; DatasheetVersion: Mar-2010; PackageVersion: revF, Apr-2008; PackageReference: MUA08A; Publisher: Altium Limited; PackageDescription: MINI SOIC, .118 x .118 x .034in, 8 Lead, .0256in Pitch; Supplier 1: Digi-Key; Supplier Part Number 1: LMP8602MM-ND; RoHS: Y; PinCount: 8; Code_JEDEC: MO-187-AA; ComponentLink1Description: LMP8602 Datasheet; ComponentLink1URL: http://www.national.com/ds/LM/LMP8602.pdf; ComponentLink2Description: LMP8602 Web Page; ComponentLink2URL: http://www.national.com/pf/LM/LMP8602.html; ComponentLink3Description: MUA08A Package Page; ComponentLink3URL: http://www.national.com/packaging/folders/mua08a.html
footprint MUA08A_N (TSOP, 8-Leads, Body 3x3mm, Pitch 0.65mm, IPC Medium Density)
footprint MUA08A_L (TSOP, 8-Leads, Body 3x3mm, Pitch 0.65mm, IPC High Density)
footprint MUA08A_M (TSOP, 8-Leads, Body 3x3mm, Pitch 0.65mm, IPC Low Density)
simulation model LMP8602 (SUBCKT)
pins: 1 IN- (in), 2 GND (power), 3 A1, 4 A2, 5 OUT (out), 6 VS (power), 7 OFS, 8 IN+ (in)

## LMP8602MME/NOPB
designator U?
60V Common Mode, 50 x Gain, Bidirectional Precision Current Sensing Amplifier, 8-pin Mini SOIC, Pb-Free; PartNumber: LMP8602MME/NOPB; Manufacturer: National Semiconductor; PackageTopMarking: ZXTT*AN3A; PowerWise: N; CompType: Amplifiers; Published: 1-Mar-2010; DatasheetVersion: Mar-2010; PackageVersion: revF, Apr-2008; PackageReference: MUA08A; Publisher: Altium Limited; PackageDescription: MINI SOIC, .118 x .118 x .034in, 8 Lead, .0256in Pitch; Supplier 1: Digi-Key; Supplier Part Number 1: LMP8602MMETR-ND; Supplier 2: Digi-Key; Supplier Part Number 2: LMP8602MMECT-ND; Supplier 3: Digi-Key; Supplier Part Number 3: LMP8602MMEDKR-ND; RoHS: Y; PinCount: 8; Code_JEDEC: MO-187-AA; ComponentLink1Description: LMP8602 Datasheet; ComponentLink1URL: http://www.national.com/ds/LM/LMP8602.pdf; ComponentLink2Description: LMP8602 Web Page; ComponentLink2URL: http://www.national.com/pf/LM/LMP8602.html; ComponentLink3Description: MUA08A Package Page; ComponentLink3URL: http://www.national.com/packaging/folders/mua08a.html
footprint MUA08A_N (TSOP, 8-Leads, Body 3x3mm, Pitch 0.65mm, IPC Medium Density)
footprint MUA08A_L (TSOP, 8-Leads, Body 3x3mm, Pitch 0.65mm, IPC High Density)
footprint MUA08A_M (TSOP, 8-Leads, Body 3x3mm, Pitch 0.65mm, IPC Low Density)
simulation model LMP8602 (SUBCKT)
pins: 1 IN- (in), 2 GND (power), 3 A1, 4 A2, 5 OUT (out), 6 VS (power), 7 OFS, 8 IN+ (in)

## LMP8602MMX/NOPB
designator U?
60V Common Mode, 50 x Gain, Bidirectional Precision Current Sensing Amplifier, 8-pin Mini SOIC, Pb-Free; PartNumber: LMP8602MMX/NOPB; Manufacturer: National Semiconductor; PackageTopMarking: ZXTT*AN3A; PowerWise: N; CompType: Amplifiers; Published: 1-Mar-2010; DatasheetVersion: Mar-2010; PackageVersion: revF, Apr-2008; PackageReference: MUA08A; Publisher: Altium Limited; PackageDescription: MINI SOIC, .118 x .118 x .034in, 8 Lead, .0256in Pitch; Supplier 1: Digi-Key; Supplier Part Number 1: LMP8602MMX-ND; RoHS: Y; PinCount: 8; Code_JEDEC: MO-187-AA; ComponentLink1Description: LMP8602 Datasheet; ComponentLink1URL: http://www.national.com/ds/LM/LMP8602.pdf; ComponentLink2Description: LMP8602 Web Page; ComponentLink2URL: http://www.national.com/pf/LM/LMP8602.html; ComponentLink3Description: MUA08A Package Page; ComponentLink3URL: http://www.national.com/packaging/folders/mua08a.html
footprint MUA08A_N (TSOP, 8-Leads, Body 3x3mm, Pitch 0.65mm, IPC Medium Density)
footprint MUA08A_L (TSOP, 8-Leads, Body 3x3mm, Pitch 0.65mm, IPC High Density)
footprint MUA08A_M (TSOP, 8-Leads, Body 3x3mm, Pitch 0.65mm, IPC Low Density)
simulation model LMP8602 (SUBCKT)
pins: 1 IN- (in), 2 GND (power), 3 A1, 4 A2, 5 OUT (out), 6 VS (power), 7 OFS, 8 IN+ (in)

## LMP8602QMA/NOPB
designator U?
60V Common Mode, 50 x Gain, Bidirectional Precision Current Sensing Amplifier, 8 pin SOIC NARROW; PartNumber: LMP8602QMA/NOPB; Manufacturer: National Semiconductor; PackageTopMarking: NSZXTT*LMP86*02QMA; PowerWise: N; CompType: Amplifiers; Published: 16-Nov-2010; DatasheetVersion: Mar-2010; PackageVersion: revM, May-2009; PackageReference: M08A; Publisher: Altium Limited; PackageDescription: SOIC Narrow, 4.9 x 3.9 x 1.45mm, 8 Lead, 1.27mm Pitch; Supplier 1: Digi-Key; Supplier Part Number 1: LMP8602QMA-ND; Supplier 2: Farnell; Supplier Part Number 2: 1822982; RoHS: Y; PinCount: 8; Code_JEDEC: MS-012-AA; Code_IPC: SOIC127P600-8; ComponentLink1Description: LMP8602 Datasheet; ComponentLink1URL: http://www.national.com/ds/LM/LMP8602.pdf; ComponentLink2Description: LMP8602 Web Page; ComponentLink2URL: http://www.national.com/pf/LM/LMP8602.html; ComponentLink3Description: M08A Package Page; ComponentLink3URL: http://www.national.com/packaging/folders/m08a.html
footprint M08A_N (SOIC, 8-Leads, Body 4.9x3.9mm, Pitch 1.27mm, IPC Medium Density)
footprint M08A_L (SOIC, 8-Leads, Body 4.9x3.9mm, Pitch 1.27mm, IPC High Density)
footprint M08A_M (SOIC, 8-Leads, Body 4.9x3.9mm, Pitch 1.27mm, IPC Low Density)
pins: 1 IN- (in), 2 GND (power), 3 A1, 4 A2, 5 OUT (out), 6 VS (power), 7 OFS, 8 IN+ (in)

## LMP8602QMAX/NOPB
designator U?
60V Common Mode, 50 x Gain, Bidirectional Precision Current Sensing Amplifier, 8 pin SOIC NARROW; PartNumber: LMP8602QMAX/NOPB; Manufacturer: National Semiconductor; PackageTopMarking: NSZXTT*LMP86*02QMA; PowerWise: N; CompType: Amplifiers; Published: 16-Nov-2010; DatasheetVersion: Mar-2010; PackageVersion: revM, May-2009; PackageReference: M08A; Publisher: Altium Limited; PackageDescription: SOIC Narrow, 4.9 x 3.9 x 1.45mm, 8 Lead, 1.27mm Pitch; Supplier 1: Digi-Key; Supplier Part Number 1: LMP8602QMAX-ND; RoHS: Y; PinCount: 8; Code_JEDEC: MS-012-AA; Code_IPC: SOIC127P600-8; ComponentLink1Description: LMP8602 Datasheet; ComponentLink1URL: http://www.national.com/ds/LM/LMP8602.pdf; ComponentLink2Description: LMP8602 Web Page; ComponentLink2URL: http://www.national.com/pf/LM/LMP8602.html; ComponentLink3Description: M08A Package Page; ComponentLink3URL: http://www.national.com/packaging/folders/m08a.html
footprint M08A_N (SOIC, 8-Leads, Body 4.9x3.9mm, Pitch 1.27mm, IPC Medium Density)
footprint M08A_L (SOIC, 8-Leads, Body 4.9x3.9mm, Pitch 1.27mm, IPC High Density)
footprint M08A_M (SOIC, 8-Leads, Body 4.9x3.9mm, Pitch 1.27mm, IPC Low Density)
pins: 1 IN- (in), 2 GND (power), 3 A1, 4 A2, 5 OUT (out), 6 VS (power), 7 OFS, 8 IN+ (in)

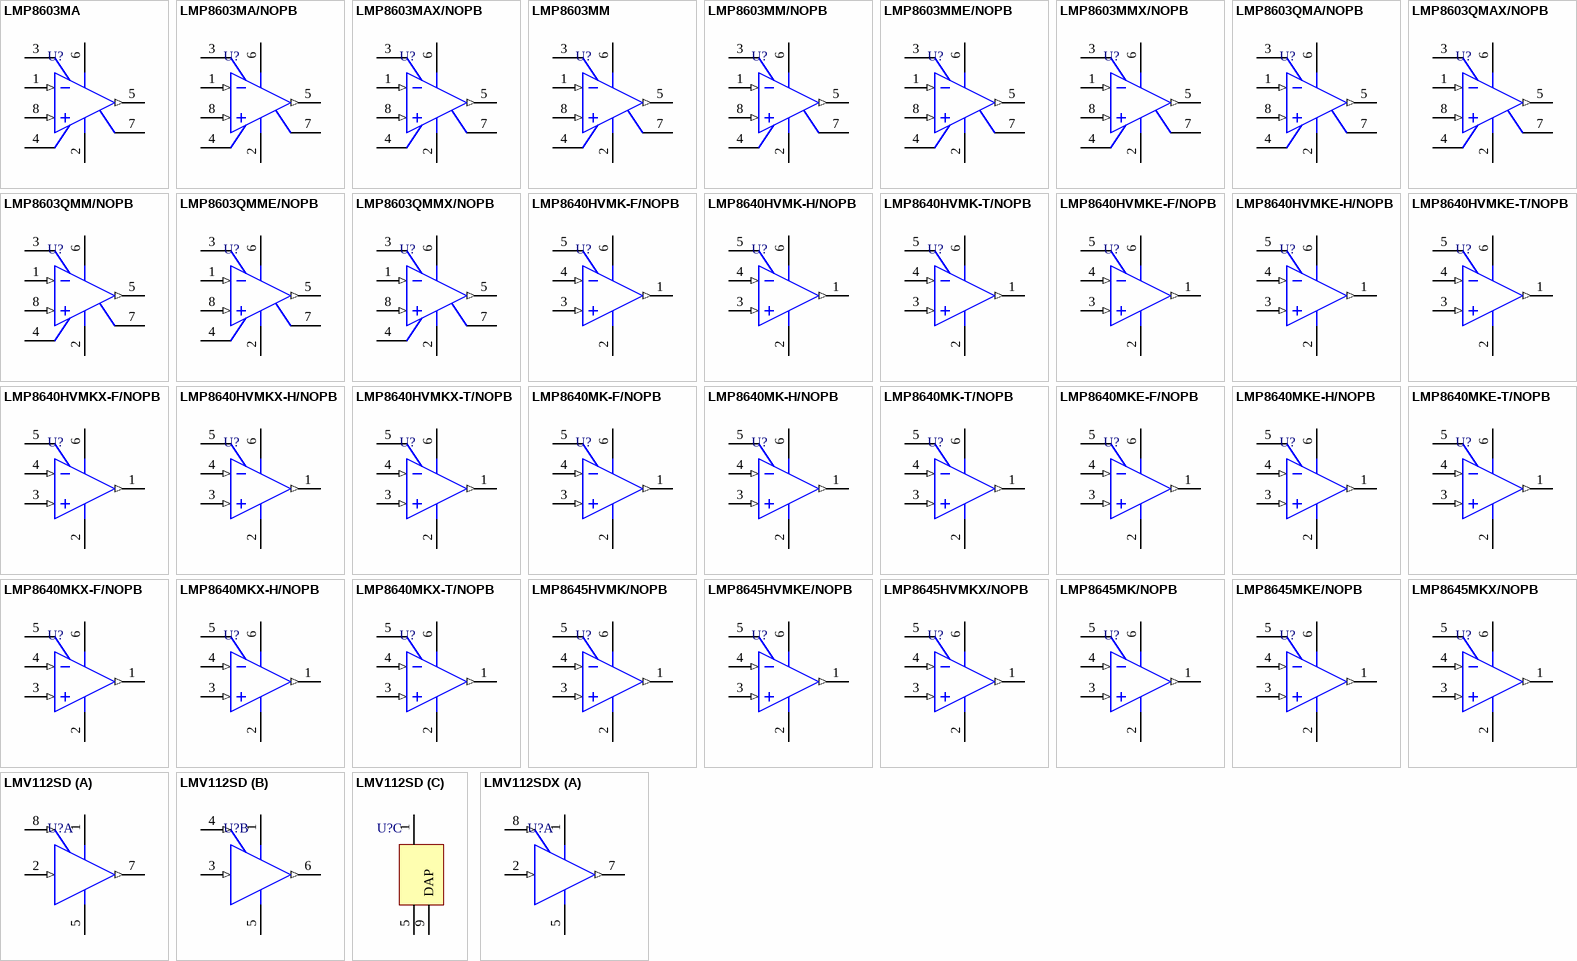
[diagram p64: symbols LMP8603MA to LMV112SDX]

## LMP8603MA
designator U?
60V Common Mode, 100 x Gain, Bidirectional Precision Current Sensing Amplifier, 8-pin Narrow SOIC; PartNumber: LMP8603MA; Manufacturer: National Semiconductor; PackageTopMarking: NSZXTT*LMP86*03MA; PowerWise: N; CompType: Amplifiers; Published: 9-Oct-2009; DatasheetVersion: Mar-2010; PackageVersion: revM, May-2009; PackageReference: M08A; Publisher: Altium Limited; PackageDescription: SOIC Narrow, 4.9 x 3.9 x 1.45mm, 8 Lead, 1.27mm Pitch; RoHS: Y; PinCount: 8; Code_JEDEC: MS-012-AA; Code_IPC: SOIC127P600-8; ComponentLink1Description: LMP8602 Datasheet; ComponentLink1URL: http://www.national.com/ds/LM/LMP8602.pdf; ComponentLink2Description: LMP8603 Web Page; ComponentLink2URL: http://www.national.com/pf/LM/LMP8603.html; ComponentLink3Description: M08A Package Page; ComponentLink3URL: http://www.national.com/packaging/folders/m08a.html
footprint M08A_N (SOIC, 8-Leads, Body 4.9x3.9mm, Pitch 1.27mm, IPC Medium Density)
footprint M08A_L (SOIC, 8-Leads, Body 4.9x3.9mm, Pitch 1.27mm, IPC High Density)
footprint M08A_M (SOIC, 8-Leads, Body 4.9x3.9mm, Pitch 1.27mm, IPC Low Density)
pins: 1 IN- (in), 2 GND (power), 3 A1, 4 A2, 5 OUT (out), 6 VS (power), 7 OFS, 8 IN+ (in)

## LMP8603MA/NOPB
designator U?
60V Common Mode, 100 x Gain, Bidirectional Precision Current Sensing Amplifier, 8-pin Narrow SOIC, Pb-Free; PartNumber: LMP8603MA/NOPB; Manufacturer: National Semiconductor; PackageTopMarking: NSZXTT*LMP86*03MA; PowerWise: N; CompType: Amplifiers; Published: 1-Mar-2010; DatasheetVersion: Mar-2010; PackageVersion: revM, May-2009; PackageReference: M08A; Publisher: Altium Limited; PackageDescription: SOIC Narrow, 4.9 x 3.9 x 1.45mm, 8 Lead, 1.27mm Pitch; Supplier 1: Digi-Key; Supplier Part Number 1: LMP8603MA-ND; RoHS: Y; PinCount: 8; Code_JEDEC: MS-012-AA; Code_IPC: SOIC127P600-8; ComponentLink1Description: LMP8603 Datasheet; ComponentLink1URL: http://www.national.com/ds/LM/LMP8603.pdf; ComponentLink2Description: LMP8603 Web Page; ComponentLink2URL: http://www.national.com/pf/LM/LMP8603.html; ComponentLink3Description: M08A Package Page; ComponentLink3URL: http://www.national.com/packaging/folders/m08a.html
footprint M08A_N (SOIC, 8-Leads, Body 4.9x3.9mm, Pitch 1.27mm, IPC Medium Density)
footprint M08A_L (SOIC, 8-Leads, Body 4.9x3.9mm, Pitch 1.27mm, IPC High Density)
footprint M08A_M (SOIC, 8-Leads, Body 4.9x3.9mm, Pitch 1.27mm, IPC Low Density)
simulation model LMP8603 (SUBCKT)
pins: 1 IN- (in), 2 GND (power), 3 A1, 4 A2, 5 OUT (out), 6 VS (power), 7 OFS, 8 IN+ (in)

## LMP8603MAX/NOPB
designator U?
60V Common Mode, 100 x Gain, Bidirectional Precision Current Sensing Amplifier, 8-pin Narrow SOIC, Pb-Free; PartNumber: LMP8603MAX/NOPB; Manufacturer: National Semiconductor; PackageTopMarking: NSZXTT*LMP86*03MA; PowerWise: N; CompType: Amplifiers; Published: 1-Mar-2010; DatasheetVersion: Mar-2010; PackageVersion: revM, May-2009; PackageReference: M08A; Publisher: Altium Limited; PackageDescription: SOIC Narrow, 4.9 x 3.9 x 1.45mm, 8 Lead, 1.27mm Pitch; Supplier 1: Digi-Key; Supplier Part Number 1: LMP8603MAX-ND; RoHS: Y; PinCount: 8; Code_JEDEC: MS-012-AA; Code_IPC: SOIC127P600-8; ComponentLink1Description: LMP8603 Datasheet; ComponentLink1URL: http://www.national.com/ds/LM/LMP8603.pdf; ComponentLink2Description: LMP8603 Web Page; ComponentLink2URL: http://www.national.com/pf/LM/LMP8603.html; ComponentLink3Description: M08A Package Page; ComponentLink3URL: http://www.national.com/packaging/folders/m08a.html
footprint M08A_N (SOIC, 8-Leads, Body 4.9x3.9mm, Pitch 1.27mm, IPC Medium Density)
footprint M08A_L (SOIC, 8-Leads, Body 4.9x3.9mm, Pitch 1.27mm, IPC High Density)
footprint M08A_M (SOIC, 8-Leads, Body 4.9x3.9mm, Pitch 1.27mm, IPC Low Density)
simulation model LMP8603 (SUBCKT)
pins: 1 IN- (in), 2 GND (power), 3 A1, 4 A2, 5 OUT (out), 6 VS (power), 7 OFS, 8 IN+ (in)